# EAGLE library part C-GRID-III_VERT_18 (library BlueBoard)
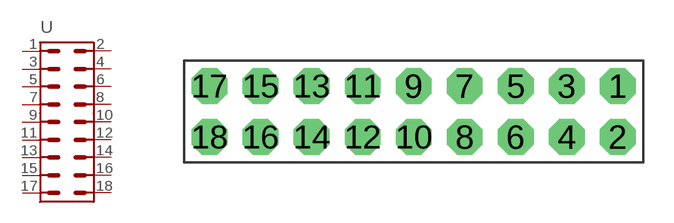
[diagram p14: symbol with the pads of C-GRID-III_VERT_18; footprint C-GRID-III_VERT_18]

Designator prefix -

## C-GRID-III_VERT_18  [C-GRID-III_VERT_18]
1  1
2  2
3  3
4  4
5  5
6  6
7  7
8  8
9  9
10  10
11  11
12  12
13  13
14  14
15  15
16  16
17  17
18  18

## Footprint C-GRID-III_VERT_18 (pad centres in mm)
drill 1 pad 1.778 octagon: 1 10.16,1.27; 2 10.16,-1.27; 3 7.62,1.27; 4 7.62,-1.27; 5 5.08,1.27; 6 5.08,-1.27; 7 2.54,1.27; 8 2.54,-1.27; 9 0,1.27; 10 0,-1.27; 11 -2.54,1.27; 12 -2.54,-1.27; 13 -5.08,1.27; 14 -5.08,-1.27; 15 -7.62,1.27; 16 -7.62,-1.27; 17 -10.16,1.27; 18 -10.16,-1.27